# Altium schematic symbol library ST Logic Buffer Line Driver.SchLib: 127 symbols (part 1 of 3)
Pins are listed as number, name and electrical type; pins without a type are passive.

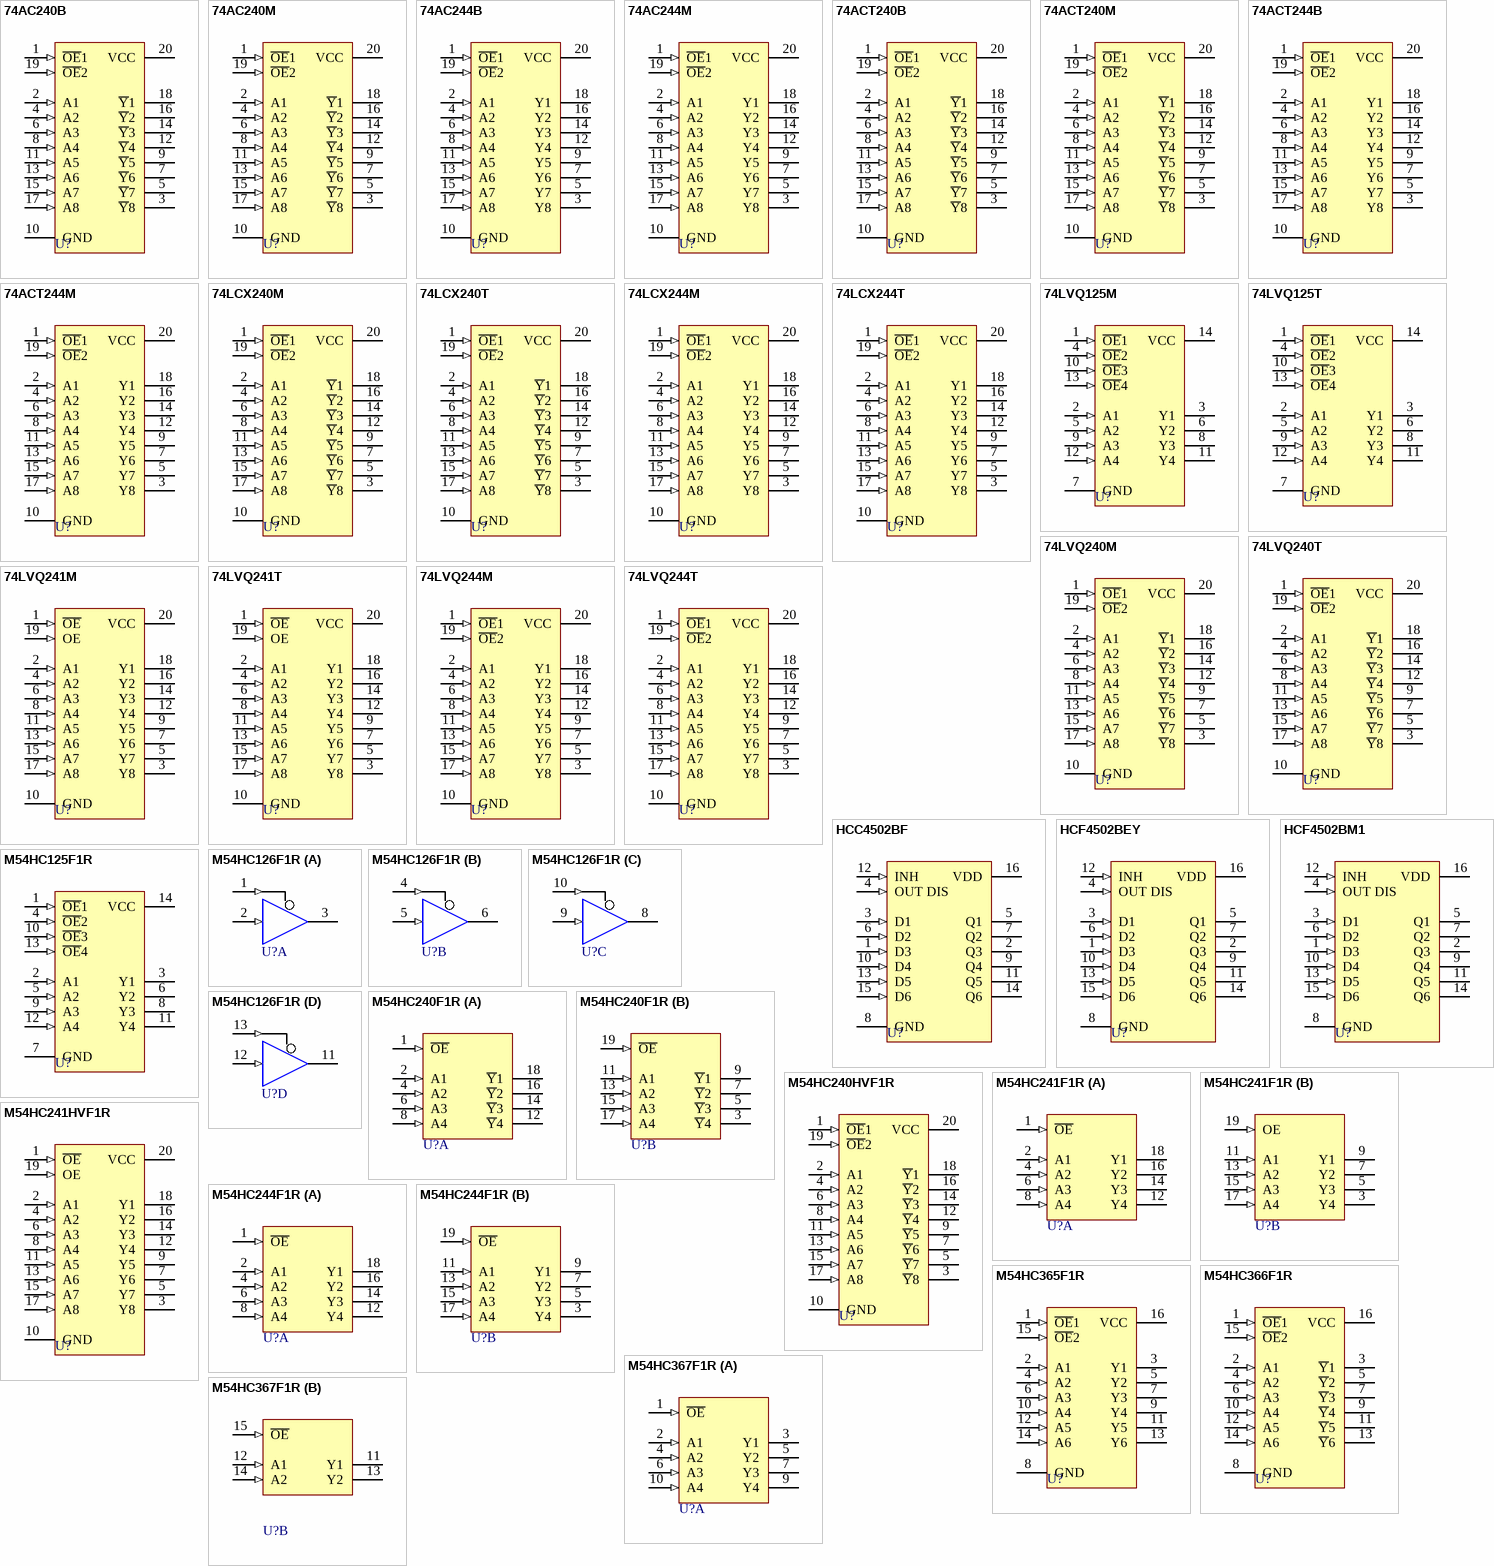
[diagram p0: symbols 74AC240B to M54HC367F1R]

## 74AC240B
designator U?
Octal Bus Buffer with 3 State Outputs (Inverted); Published: 8-Jun-2000; LatestRevisionDate: 06-Jun-2005; LatestRevisionNote: Stylized 3D Model Added.; DatasheetVersion: Apr-1997; PackageVersion: Jun-1998; PackageReference: DIP20; Publisher: Altium Limited; PackageDescription: DIP; 20 Leads; Row Spacing 7.62 mm; Pitch 2.54 mm; Code_JEDEC: MS-015-AE; ComponentLink1Description: Manufacturer Link; ComponentLink1URL: http://www.st.com/
footprint DIP20 (DIP; 20 Leads; Row Spacing 7.62 mm; Pitch 2.54 mm)
3D model DIP20 (DIP; 20 Leads; Row Spacing 7.62 mm; Pitch 2.54 mm)
signal-integrity model 74AC240B
pins: 1 ~{OE}1 (in), 2 A1 (in), 3 ~{Y}8 (hiz), 4 A2 (in), 5 ~{Y}7 (hiz), 6 A3 (in), 7 ~{Y}6 (hiz), 8 A4 (in), 9 ~{Y}5 (hiz), 10 GND (power), 11 A5 (in), 12 ~{Y}4 (hiz), 13 A6 (in), 14 ~{Y}3 (hiz), 15 A7 (in), 16 ~{Y}2 (hiz), 17 A8 (in), 18 ~{Y}1 (hiz), 19 ~{OE}2 (in), 20 VCC (power)

## 74AC240M
designator U?
Octal Bus Buffer with 3 State Outputs (Inverted); Published: 8-Jun-2000; LatestRevisionDate: 13-Apr-2006; LatestRevisionNote: IPC-7351 Footprint Added.; DatasheetVersion: Apr-1997; PackageVersion: Jul-2001; PackageReference: SO20; Publisher: Altium Limited; PackageDescription: 20-Pin Plastic Small Outline Integrated Circuit 1.27 mm Pitch; Code_JEDEC: MS-013-AC; Code_IPC: SOIC127P1030-20; ComponentLink1Description: Manufacturer Link; ComponentLink1URL: http://www.st.com/
footprint SO20_N (SOIC, 20-Leads, Body 12.8x7.5mm, Pitch 1.27mm, IPC Medium Density)
footprint SO20_L (SOIC, 20-Leads, Body 12.8x7.5mm, Pitch 1.27mm, IPC High Density)
footprint SO20_M (SOIC, 20-Leads, Body 12.8x7.5mm, Pitch 1.27mm, IPC Low Density)
3D model SO20 (20-Pin Plastic Small Outline Integrated Circuit 1.27 mm Pitch)
signal-integrity model 74AC240M
pins: 1 ~{OE}1 (in), 2 A1 (in), 3 ~{Y}8 (hiz), 4 A2 (in), 5 ~{Y}7 (hiz), 6 A3 (in), 7 ~{Y}6 (hiz), 8 A4 (in), 9 ~{Y}5 (hiz), 10 GND (power), 11 A5 (in), 12 ~{Y}4 (hiz), 13 A6 (in), 14 ~{Y}3 (hiz), 15 A7 (in), 16 ~{Y}2 (hiz), 17 A8 (in), 18 ~{Y}1 (hiz), 19 ~{OE}2 (in), 20 VCC (power)

## 74AC244B
designator U?
Octal Bus Buffer with 3 State Outputs (Non Inverted); Published: 8-Jun-2000; LatestRevisionDate: 06-Jun-2005; LatestRevisionNote: Stylized 3D Model Added.; DatasheetVersion: Apr-1997; PackageVersion: Jun-1998; PackageReference: DIP20; Publisher: Altium Limited; PackageDescription: DIP; 20 Leads; Row Spacing 7.62 mm; Pitch 2.54 mm; Code_JEDEC: MS-015-AE; ComponentLink1Description: Manufacturer Link; ComponentLink1URL: http://www.st.com/; ComponentLink2Description: Datasheet; ComponentLink2URL: http://www.st.com/stonline/products/literature/ds/4698/74ac244.pdf
footprint DIP20 (DIP; 20 Leads; Row Spacing 7.62 mm; Pitch 2.54 mm)
3D model DIP20 (DIP; 20 Leads; Row Spacing 7.62 mm; Pitch 2.54 mm)
signal-integrity model 74AC244B
pins: 1 ~{OE}1 (in), 2 A1 (in), 3 Y8 (hiz), 4 A2 (in), 5 Y7 (hiz), 6 A3 (in), 7 Y6 (hiz), 8 A4 (in), 9 Y5 (hiz), 10 GND (power), 11 A5 (in), 12 Y4 (hiz), 13 A6 (in), 14 Y3 (hiz), 15 A7 (in), 16 Y2 (hiz), 17 A8 (in), 18 Y1 (hiz), 19 ~{OE}2 (in), 20 VCC (power)

## 74AC244M
designator U?
Octal Bus Buffer with 3 State Outputs (Non Inverted); Published: 8-Jun-2000; LatestRevisionDate: 13-Apr-2006; LatestRevisionNote: IPC-7351 Footprint Added.; DatasheetVersion: Apr-1997; PackageVersion: Jul-2001; PackageReference: SO20; Publisher: Altium Limited; PackageDescription: 20-Pin Plastic Small Outline Integrated Circuit 1.27 mm Pitch; Code_JEDEC: MS-013-AC; Code_IPC: SOIC127P1030-20; ComponentLink1Description: Manufacturer Link; ComponentLink1URL: http://www.st.com/; ComponentLink2Description: Datasheet; ComponentLink2URL: http://www.st.com/stonline/products/literature/ds/4698/74ac244.pdf
footprint SO20_N (SOIC, 20-Leads, Body 12.8x7.5mm, Pitch 1.27mm, IPC Medium Density)
footprint SO20_L (SOIC, 20-Leads, Body 12.8x7.5mm, Pitch 1.27mm, IPC High Density)
footprint SO20_M (SOIC, 20-Leads, Body 12.8x7.5mm, Pitch 1.27mm, IPC Low Density)
3D model SO20 (20-Pin Plastic Small Outline Integrated Circuit 1.27 mm Pitch)
signal-integrity model 74AC244M
pins: 1 ~{OE}1 (in), 2 A1 (in), 3 Y8 (hiz), 4 A2 (in), 5 Y7 (hiz), 6 A3 (in), 7 Y6 (hiz), 8 A4 (in), 9 Y5 (hiz), 10 GND (power), 11 A5 (in), 12 Y4 (hiz), 13 A6 (in), 14 Y3 (hiz), 15 A7 (in), 16 Y2 (hiz), 17 A8 (in), 18 Y1 (hiz), 19 ~{OE}2 (in), 20 VCC (power)

## 74ACT240B
designator U?
Octal Bus Buffer with 3 State Outputs (Inverted); Published: 8-Jun-2000; LatestRevisionDate: 06-Jun-2005; LatestRevisionNote: Stylized 3D Model Added.; DatasheetVersion: Apr-1997; PackageVersion: Jun-1998; PackageReference: DIP20; Publisher: Altium Limited; PackageDescription: DIP; 20 Leads; Row Spacing 7.62 mm; Pitch 2.54 mm; Code_JEDEC: MS-015-AE; ComponentLink1Description: Manufacturer Link; ComponentLink1URL: http://www.st.com/; ComponentLink2Description: Datasheet; ComponentLink2URL: http://www.st.com/stonline/products/literature/ds/4826/74act240.pdf
footprint DIP20 (DIP; 20 Leads; Row Spacing 7.62 mm; Pitch 2.54 mm)
3D model DIP20 (DIP; 20 Leads; Row Spacing 7.62 mm; Pitch 2.54 mm)
signal-integrity model 74ACT240B
pins: 1 ~{OE}1 (in), 2 A1 (in), 3 ~{Y}8 (hiz), 4 A2 (in), 5 ~{Y}7 (hiz), 6 A3 (in), 7 ~{Y}6 (hiz), 8 A4 (in), 9 ~{Y}5 (hiz), 10 GND (power), 11 A5 (in), 12 ~{Y}4 (hiz), 13 A6 (in), 14 ~{Y}3 (hiz), 15 A7 (in), 16 ~{Y}2 (hiz), 17 A8 (in), 18 ~{Y}1 (hiz), 19 ~{OE}2 (in), 20 VCC (power)

## 74ACT240M
designator U?
Octal Bus Buffer with 3 State Outputs (Inverted); Published: 8-Jun-2000; LatestRevisionDate: 13-Apr-2006; LatestRevisionNote: IPC-7351 Footprint Added.; DatasheetVersion: Apr-1997; PackageVersion: Jul-2001; PackageReference: SO20; Publisher: Altium Limited; PackageDescription: 20-Pin Plastic Small Outline Integrated Circuit 1.27 mm Pitch; Code_JEDEC: MS-013-AC; Code_IPC: SOIC127P1030-20; ComponentLink1Description: Manufacturer Link; ComponentLink1URL: http://www.st.com/; ComponentLink2Description: Datasheet; ComponentLink2URL: http://www.st.com/stonline/products/literature/ds/4826/74act240.pdf
footprint SO20_N (SOIC, 20-Leads, Body 12.8x7.5mm, Pitch 1.27mm, IPC Medium Density)
footprint SO20_L (SOIC, 20-Leads, Body 12.8x7.5mm, Pitch 1.27mm, IPC High Density)
footprint SO20_M (SOIC, 20-Leads, Body 12.8x7.5mm, Pitch 1.27mm, IPC Low Density)
3D model SO20 (20-Pin Plastic Small Outline Integrated Circuit 1.27 mm Pitch)
signal-integrity model 74ACT240M
pins: 1 ~{OE}1 (in), 2 A1 (in), 3 ~{Y}8 (hiz), 4 A2 (in), 5 ~{Y}7 (hiz), 6 A3 (in), 7 ~{Y}6 (hiz), 8 A4 (in), 9 ~{Y}5 (hiz), 10 GND (power), 11 A5 (in), 12 ~{Y}4 (hiz), 13 A6 (in), 14 ~{Y}3 (hiz), 15 A7 (in), 16 ~{Y}2 (hiz), 17 A8 (in), 18 ~{Y}1 (hiz), 19 ~{OE}2 (in), 20 VCC (power)

## 74ACT244B
designator U?
Octal Bus Buffer with 3 State Outputs (Non Inverted); Published: 8-Jun-2000; LatestRevisionDate: 06-Jun-2005; LatestRevisionNote: Stylized 3D Model Added.; DatasheetVersion: Feb-1999; PackageVersion: Jun-1998; PackageReference: DIP20; Publisher: Altium Limited; PackageDescription: DIP; 20 Leads; Row Spacing 7.62 mm; Pitch 2.54 mm; Code_JEDEC: MS-015-AE; ComponentLink1Description: Manufacturer Link; ComponentLink1URL: http://www.st.com/; ComponentLink2Description: Datasheet; ComponentLink2URL: http://www.st.com/stonline/products/literature/ds/4825/74act244.pdf
footprint DIP20 (DIP; 20 Leads; Row Spacing 7.62 mm; Pitch 2.54 mm)
3D model DIP20 (DIP; 20 Leads; Row Spacing 7.62 mm; Pitch 2.54 mm)
signal-integrity model 74ACT244B
pins: 1 ~{OE}1 (in), 2 A1 (in), 3 Y8 (hiz), 4 A2 (in), 5 Y7 (hiz), 6 A3 (in), 7 Y6 (hiz), 8 A4 (in), 9 Y5 (hiz), 10 GND (power), 11 A5 (in), 12 Y4 (hiz), 13 A6 (in), 14 Y3 (hiz), 15 A7 (in), 16 Y2 (hiz), 17 A8 (in), 18 Y1 (hiz), 19 ~{OE}2 (in), 20 VCC (power)

## 74ACT244M
designator U?
Octal Bus Buffer with 3 State Outputs (Non Inverted); Published: 8-Jun-2000; LatestRevisionDate: 13-Apr-2006; LatestRevisionNote: IPC-7351 Footprint Added.; DatasheetVersion: Feb-1999; PackageVersion: Jul-2001; PackageReference: SO20; Publisher: Altium Limited; PackageDescription: 20-Pin Plastic Small Outline Integrated Circuit 1.27 mm Pitch; Code_JEDEC: MS-013-AC; Code_IPC: SOIC127P1030-20; ComponentLink1Description: Manufacturer Link; ComponentLink1URL: http://www.st.com/; ComponentLink2Description: Datasheet; ComponentLink2URL: http://www.st.com/stonline/products/literature/ds/4825/74act244.pdf
footprint SO20_N (SOIC, 20-Leads, Body 12.8x7.5mm, Pitch 1.27mm, IPC Medium Density)
footprint SO20_L (SOIC, 20-Leads, Body 12.8x7.5mm, Pitch 1.27mm, IPC High Density)
footprint SO20_M (SOIC, 20-Leads, Body 12.8x7.5mm, Pitch 1.27mm, IPC Low Density)
3D model SO20 (20-Pin Plastic Small Outline Integrated Circuit 1.27 mm Pitch)
signal-integrity model 74ACT244M
pins: 1 ~{OE}1 (in), 2 A1 (in), 3 Y8 (hiz), 4 A2 (in), 5 Y7 (hiz), 6 A3 (in), 7 Y6 (hiz), 8 A4 (in), 9 Y5 (hiz), 10 GND (power), 11 A5 (in), 12 Y4 (hiz), 13 A6 (in), 14 Y3 (hiz), 15 A7 (in), 16 Y2 (hiz), 17 A8 (in), 18 Y1 (hiz), 19 ~{OE}2 (in), 20 VCC (power)

## 74LCX240M
designator U?
Low Voltage CMOS Octal Bus Buffer (3 State Inv.) with 5V Tolerant Inputs and Outputs; Published: 8-Jun-2000; LatestRevisionDate: 13-Apr-2006; LatestRevisionNote: IPC-7351 Footprint Added.; DatasheetVersion: Feb-1999; PackageVersion: Jul-2001; PackageReference: SO20; Publisher: Altium Limited; PackageDescription: 20-Pin Plastic Small Outline Integrated Circuit 1.27 mm Pitch; Code_JEDEC: MS-013-AC; Code_IPC: SOIC127P1030-20; ComponentLink1Description: Manufacturer Link; ComponentLink1URL: http://www.st.com/; ComponentLink2Description: Datasheet; ComponentLink2URL: http://www.st.com/stonline/products/literature/ds/4964/74lcx240.pdf
footprint SO20_N (SOIC, 20-Leads, Body 12.8x7.5mm, Pitch 1.27mm, IPC Medium Density)
footprint SO20_L (SOIC, 20-Leads, Body 12.8x7.5mm, Pitch 1.27mm, IPC High Density)
footprint SO20_M (SOIC, 20-Leads, Body 12.8x7.5mm, Pitch 1.27mm, IPC Low Density)
3D model SO20 (20-Pin Plastic Small Outline Integrated Circuit 1.27 mm Pitch)
pins: 1 ~{OE}1 (in), 2 A1 (in), 3 ~{Y}8 (hiz), 4 A2 (in), 5 ~{Y}7 (hiz), 6 A3 (in), 7 ~{Y}6 (hiz), 8 A4 (in), 9 ~{Y}5 (hiz), 10 GND (power), 11 A5 (in), 12 ~{Y}4 (hiz), 13 A6 (in), 14 ~{Y}3 (hiz), 15 A7 (in), 16 ~{Y}2 (hiz), 17 A8 (in), 18 ~{Y}1 (hiz), 19 ~{OE}2 (in), 20 VCC (power)

## 74LCX240T
designator U?
Low Voltage CMOS Octal Bus Buffer (3 State Inv.) with 5V Tolerant Inputs and Outputs; Published: 8-Jun-2000; LatestRevisionDate: 06-Jun-2005; LatestRevisionNote: Stylized 3D Model Added.; DatasheetVersion: Feb-1999; PackageReference: TSSOP20; Publisher: Altium Limited; PackageDescription: Shrink Small Outline; 20 Leads; Body Width 4.4 mm; Pitch 0.65 mm; ComponentLink1Description: Manufacturer Link; ComponentLink1URL: http://www.st.com/; ComponentLink2Description: Datasheet; ComponentLink2URL: http://www.st.com/stonline/products/literature/ds/4964/74lcx240.pdf
footprint TSSOP20 (Shrink Small Outline; 20 Leads; Body Width 4.4 mm; Pitch 0.65 mm)
3D model TSSOP20 (Shrink Small Outline; 20 Leads; Body Width 4.4 mm; Pitch 0.65 mm)
pins: 1 ~{OE}1 (in), 2 A1 (in), 3 ~{Y}8 (hiz), 4 A2 (in), 5 ~{Y}7 (hiz), 6 A3 (in), 7 ~{Y}6 (hiz), 8 A4 (in), 9 ~{Y}5 (hiz), 10 GND (power), 11 A5 (in), 12 ~{Y}4 (hiz), 13 A6 (in), 14 ~{Y}3 (hiz), 15 A7 (in), 16 ~{Y}2 (hiz), 17 A8 (in), 18 ~{Y}1 (hiz), 19 ~{OE}2 (in), 20 VCC (power)

## 74LCX244M
designator U?
Low Voltage CMOS Octal Bus Buffer (3-State) with 5V Tolerant Inputs and Outputs; Published: 8-Jun-2000; LatestRevisionDate: 13-Apr-2006; LatestRevisionNote: IPC-7351 Footprint Added.; DatasheetVersion: Feb-1999; PackageVersion: Jul-2001; PackageReference: SO20; Publisher: Altium Limited; PackageDescription: 20-Pin Plastic Small Outline Integrated Circuit 1.27 mm Pitch; Code_JEDEC: MS-013-AC; Code_IPC: SOIC127P1030-20; ComponentLink1Description: Manufacturer Link; ComponentLink1URL: http://www.st.com/; ComponentLink2Description: Datasheet; ComponentLink2URL: http://www.st.com/stonline/products/literature/ds/4683/74lcx244.pdf
footprint SO20_N (SOIC, 20-Leads, Body 12.8x7.5mm, Pitch 1.27mm, IPC Medium Density)
footprint SO20_L (SOIC, 20-Leads, Body 12.8x7.5mm, Pitch 1.27mm, IPC High Density)
footprint SO20_M (SOIC, 20-Leads, Body 12.8x7.5mm, Pitch 1.27mm, IPC Low Density)
3D model SO20 (20-Pin Plastic Small Outline Integrated Circuit 1.27 mm Pitch)
pins: 1 ~{OE}1 (in), 2 A1 (in), 3 Y8 (hiz), 4 A2 (in), 5 Y7 (hiz), 6 A3 (in), 7 Y6 (hiz), 8 A4 (in), 9 Y5 (hiz), 10 GND (power), 11 A5 (in), 12 Y4 (hiz), 13 A6 (in), 14 Y3 (hiz), 15 A7 (in), 16 Y2 (hiz), 17 A8 (in), 18 Y1 (hiz), 19 ~{OE}2 (in), 20 VCC (power)

## 74LCX244T
designator U?
Low Voltage CMOS Octal Bus Buffer (3-State) with 5V Tolerant Inputs and Outputs; Published: 8-Jun-2000; LatestRevisionDate: 06-Jun-2005; LatestRevisionNote: Stylized 3D Model Added.; DatasheetVersion: Feb-1999; PackageReference: TSSOP20; Publisher: Altium Limited; PackageDescription: Shrink Small Outline; 20 Leads; Body Width 4.4 mm; Pitch 0.65 mm; ComponentLink1Description: Manufacturer Link; ComponentLink1URL: http://www.st.com/; ComponentLink2Description: Datasheet; ComponentLink2URL: http://www.st.com/stonline/products/literature/ds/4683/74lcx244.pdf
footprint TSSOP20 (Shrink Small Outline; 20 Leads; Body Width 4.4 mm; Pitch 0.65 mm)
3D model TSSOP20 (Shrink Small Outline; 20 Leads; Body Width 4.4 mm; Pitch 0.65 mm)
pins: 1 ~{OE}1 (in), 2 A1 (in), 3 Y8 (hiz), 4 A2 (in), 5 Y7 (hiz), 6 A3 (in), 7 Y6 (hiz), 8 A4 (in), 9 Y5 (hiz), 10 GND (power), 11 A5 (in), 12 Y4 (hiz), 13 A6 (in), 14 Y3 (hiz), 15 A7 (in), 16 Y2 (hiz), 17 A8 (in), 18 Y1 (hiz), 19 ~{OE}2 (in), 20 VCC (power)

## 74LVQ125M
designator U?
Quad Bus Buffer (3-State); Published: 8-Jun-2000; LatestRevisionDate: 13-Apr-2006; LatestRevisionNote: IPC-7351 Footprint Added.; DatasheetVersion: Feb-1999; PackageVersion: Sep-1998; PackageReference: SO14; Publisher: Altium Limited; PackageDescription: 14-Pin Small Outline Integrated Circuit 1.27 mm Pitch; Code_IPC: SOIC127P600-14; ComponentLink1Description: Manufacturer Link; ComponentLink1URL: http://www.st.com/; ComponentLink2Description: Datasheet; ComponentLink2URL: http://www.st.com/stonline/products/literature/ds/4933/74lvq125.pdf
footprint SO14_N (SOIC, 14-Leads, Body 8.7x3.9mm, Pitch 1.27mm, IPC Medium Density)
footprint SO14_L (SOIC, 14-Leads, Body 8.7x3.9mm, Pitch 1.27mm, IPC High Density)
footprint SO14_M (SOIC, 14-Leads, Body 8.7x3.9mm, Pitch 1.27mm, IPC Low Density)
3D model SO14 (14-Pin Small Outline Integrated Circuit 1.27 mm Pitch)
pins: 1 ~{OE}1 (in), 2 A1 (in), 3 Y1 (hiz), 4 ~{OE}2 (in), 5 A2 (in), 6 Y2 (hiz), 7 GND (power), 8 Y3 (hiz), 9 A3 (in), 10 ~{OE}3 (in), 11 Y4 (hiz), 12 A4 (in), 13 ~{OE}4 (in), 14 VCC (power)

## 74LVQ125T
designator U?
Quad Bus Buffer (3-State); Published: 8-Jun-2000; LatestRevisionDate: 06-Jun-2005; LatestRevisionNote: Stylized 3D Model Added.; DatasheetVersion: Feb-1999; PackageVersion: Jul-1998; PackageReference: TSSOP14; Publisher: Altium Limited; PackageDescription: Shrink Small Outline; 14 Leads; Body Width 4.4 mm; Pitch 0.65 mm; ComponentLink1Description: Manufacturer Link; ComponentLink1URL: http://www.st.com/; ComponentLink2Description: Datasheet; ComponentLink2URL: http://www.st.com/stonline/products/literature/ds/4933/74lvq125.pdf
footprint TSSOP14 (Shrink Small Outline; 14 Leads; Body Width 4.4 mm; Pitch 0.65 mm)
3D model TSSOP14 (Shrink Small Outline; 14 Leads; Body Width 4.4 mm; Pitch 0.65 mm)
pins: 1 ~{OE}1 (in), 2 A1 (in), 3 Y1 (hiz), 4 ~{OE}2 (in), 5 A2 (in), 6 Y2 (hiz), 7 GND (power), 8 Y3 (hiz), 9 A3 (in), 10 ~{OE}3 (in), 11 Y4 (hiz), 12 A4 (in), 13 ~{OE}4 (in), 14 VCC (power)

## 74LVQ240M
designator U?
Low Voltage Octal Bus Buffer with 3 State Outputs (Inverted); Published: 8-Jun-2000; LatestRevisionDate: 13-Apr-2006; LatestRevisionNote: IPC-7351 Footprint Added.; DatasheetVersion: Feb-1999; PackageVersion: Jul-2001; PackageReference: SO20; Publisher: Altium Limited; PackageDescription: 20-Pin Plastic Small Outline Integrated Circuit 1.27 mm Pitch; Code_JEDEC: MS-013-AC; Code_IPC: SOIC127P1030-20; ComponentLink1Description: Manufacturer Link; ComponentLink1URL: http://www.st.com/; ComponentLink2Description: Datasheet; ComponentLink2URL: http://www.st.com/stonline/products/literature/ds/4685/74lvq240.pdf
footprint SO20_N (SOIC, 20-Leads, Body 12.8x7.5mm, Pitch 1.27mm, IPC Medium Density)
footprint SO20_L (SOIC, 20-Leads, Body 12.8x7.5mm, Pitch 1.27mm, IPC High Density)
footprint SO20_M (SOIC, 20-Leads, Body 12.8x7.5mm, Pitch 1.27mm, IPC Low Density)
3D model SO20 (20-Pin Plastic Small Outline Integrated Circuit 1.27 mm Pitch)
pins: 1 ~{OE}1 (in), 2 A1 (in), 3 ~{Y}8 (hiz), 4 A2 (in), 5 ~{Y}7 (hiz), 6 A3 (in), 7 ~{Y}6 (hiz), 8 A4 (in), 9 ~{Y}5 (hiz), 10 GND (power), 11 A5 (in), 12 ~{Y}4 (hiz), 13 A6 (in), 14 ~{Y}3 (hiz), 15 A7 (in), 16 ~{Y}2 (hiz), 17 A8 (in), 18 ~{Y}1 (hiz), 19 ~{OE}2 (in), 20 VCC (power)

## 74LVQ240T
designator U?
Low Voltage Octal Bus Buffer with 3 State Outputs (Inverted); Published: 8-Jun-2000; LatestRevisionDate: 06-Jun-2005; LatestRevisionNote: Stylized 3D Model Added.; DatasheetVersion: Feb-1999; PackageReference: TSSOP20; Publisher: Altium Limited; PackageDescription: Shrink Small Outline; 20 Leads; Body Width 4.4 mm; Pitch 0.65 mm; ComponentLink1Description: Manufacturer Link; ComponentLink1URL: http://www.st.com/; ComponentLink2Description: Datasheet; ComponentLink2URL: http://www.st.com/stonline/products/literature/ds/4685/74lvq240.pdf
footprint TSSOP20 (Shrink Small Outline; 20 Leads; Body Width 4.4 mm; Pitch 0.65 mm)
3D model TSSOP20 (Shrink Small Outline; 20 Leads; Body Width 4.4 mm; Pitch 0.65 mm)
pins: 1 ~{OE}1 (in), 2 A1 (in), 3 ~{Y}8 (hiz), 4 A2 (in), 5 ~{Y}7 (hiz), 6 A3 (in), 7 ~{Y}6 (hiz), 8 A4 (in), 9 ~{Y}5 (hiz), 10 GND (power), 11 A5 (in), 12 ~{Y}4 (hiz), 13 A6 (in), 14 ~{Y}3 (hiz), 15 A7 (in), 16 ~{Y}2 (hiz), 17 A8 (in), 18 ~{Y}1 (hiz), 19 ~{OE}2 (in), 20 VCC (power)

## 74LVQ241M
designator U?
Low Voltage Octal Bus Buffer with 3 State Outputs (Non Inverted); Published: 8-Jun-2000; LatestRevisionDate: 13-Apr-2006; LatestRevisionNote: IPC-7351 Footprint Added.; DatasheetVersion: Feb-1999; PackageVersion: Jul-2001; PackageReference: SO20; Publisher: Altium Limited; PackageDescription: 20-Pin Plastic Small Outline Integrated Circuit 1.27 mm Pitch; Code_JEDEC: MS-013-AC; Code_IPC: SOIC127P1030-20; ComponentLink1Description: Manufacturer Link; ComponentLink1URL: http://www.st.com/; ComponentLink2Description: Datasheet; ComponentLink2URL: http://www.st.com/stonline/products/literature/ds/4686/74lvq241.pdf
footprint SO20_N (SOIC, 20-Leads, Body 12.8x7.5mm, Pitch 1.27mm, IPC Medium Density)
footprint SO20_L (SOIC, 20-Leads, Body 12.8x7.5mm, Pitch 1.27mm, IPC High Density)
footprint SO20_M (SOIC, 20-Leads, Body 12.8x7.5mm, Pitch 1.27mm, IPC Low Density)
3D model SO20 (20-Pin Plastic Small Outline Integrated Circuit 1.27 mm Pitch)
pins: 1 ~{OE} (in), 2 A1 (in), 3 Y8 (hiz), 4 A2 (in), 5 Y7 (hiz), 6 A3 (in), 7 Y6 (hiz), 8 A4 (in), 9 Y5 (hiz), 10 GND (power), 11 A5 (in), 12 Y4 (hiz), 13 A6 (in), 14 Y3 (hiz), 15 A7 (in), 16 Y2 (hiz), 17 A8 (in), 18 Y1 (hiz), 19 OE (in), 20 VCC (power)

## 74LVQ241T
designator U?
Low Voltage Octal Bus Buffer with 3 State Outputs (Non Inverted); Published: 8-Jun-2000; LatestRevisionDate: 06-Jun-2005; LatestRevisionNote: Stylized 3D Model Added.; DatasheetVersion: Feb-1999; PackageReference: TSSOP20; Publisher: Altium Limited; PackageDescription: Shrink Small Outline; 20 Leads; Body Width 4.4 mm; Pitch 0.65 mm; ComponentLink1Description: Manufacturer Link; ComponentLink1URL: http://www.st.com/; ComponentLink2Description: Datasheet; ComponentLink2URL: http://www.st.com/stonline/products/literature/ds/4686/74lvq241.pdf
footprint TSSOP20 (Shrink Small Outline; 20 Leads; Body Width 4.4 mm; Pitch 0.65 mm)
3D model TSSOP20 (Shrink Small Outline; 20 Leads; Body Width 4.4 mm; Pitch 0.65 mm)
pins: 1 ~{OE} (in), 2 A1 (in), 3 Y8 (hiz), 4 A2 (in), 5 Y7 (hiz), 6 A3 (in), 7 Y6 (hiz), 8 A4 (in), 9 Y5 (hiz), 10 GND (power), 11 A5 (in), 12 Y4 (hiz), 13 A6 (in), 14 Y3 (hiz), 15 A7 (in), 16 Y2 (hiz), 17 A8 (in), 18 Y1 (hiz), 19 OE (in), 20 VCC (power)

## 74LVQ244M
designator U?
Low Voltage Octal Bus Buffer with 3 State Outputs (Non Inverted); Published: 8-Jun-2000; LatestRevisionDate: 13-Apr-2006; LatestRevisionNote: IPC-7351 Footprint Added.; DatasheetVersion: Feb-1999; PackageVersion: Jul-2001; PackageReference: SO20; Publisher: Altium Limited; PackageDescription: 20-Pin Plastic Small Outline Integrated Circuit 1.27 mm Pitch; Code_JEDEC: MS-013-AC; Code_IPC: SOIC127P1030-20; ComponentLink1Description: Manufacturer Link; ComponentLink1URL: http://www.st.com/; ComponentLink2Description: Datasheet; ComponentLink2URL: http://www.st.com/stonline/products/literature/ds/4687/74lvq244.pdf
footprint SO20_N (SOIC, 20-Leads, Body 12.8x7.5mm, Pitch 1.27mm, IPC Medium Density)
footprint SO20_L (SOIC, 20-Leads, Body 12.8x7.5mm, Pitch 1.27mm, IPC High Density)
footprint SO20_M (SOIC, 20-Leads, Body 12.8x7.5mm, Pitch 1.27mm, IPC Low Density)
3D model SO20 (20-Pin Plastic Small Outline Integrated Circuit 1.27 mm Pitch)
pins: 1 ~{OE}1 (in), 2 A1 (in), 3 Y8 (hiz), 4 A2 (in), 5 Y7 (hiz), 6 A3 (in), 7 Y6 (hiz), 8 A4 (in), 9 Y5 (hiz), 10 GND (power), 11 A5 (in), 12 Y4 (hiz), 13 A6 (in), 14 Y3 (hiz), 15 A7 (in), 16 Y2 (hiz), 17 A8 (in), 18 Y1 (hiz), 19 ~{OE}2 (in), 20 VCC (power)

## 74LVQ244T
designator U?
Low Voltage Octal Bus Buffer with 3 State Outputs (Non Inverted); Published: 8-Jun-2000; LatestRevisionDate: 06-Jun-2005; LatestRevisionNote: Stylized 3D Model Added.; DatasheetVersion: Feb-1999; PackageReference: TSSOP20; Publisher: Altium Limited; PackageDescription: Shrink Small Outline; 20 Leads; Body Width 4.4 mm; Pitch 0.65 mm; ComponentLink1Description: Manufacturer Link; ComponentLink1URL: http://www.st.com/; ComponentLink2Description: Datasheet; ComponentLink2URL: http://www.st.com/stonline/products/literature/ds/4687/74lvq244.pdf
footprint TSSOP20 (Shrink Small Outline; 20 Leads; Body Width 4.4 mm; Pitch 0.65 mm)
3D model TSSOP20 (Shrink Small Outline; 20 Leads; Body Width 4.4 mm; Pitch 0.65 mm)
pins: 1 ~{OE}1 (in), 2 A1 (in), 3 Y8 (hiz), 4 A2 (in), 5 Y7 (hiz), 6 A3 (in), 7 Y6 (hiz), 8 A4 (in), 9 Y5 (hiz), 10 GND (power), 11 A5 (in), 12 Y4 (hiz), 13 A6 (in), 14 Y3 (hiz), 15 A7 (in), 16 Y2 (hiz), 17 A8 (in), 18 Y1 (hiz), 19 ~{OE}2 (in), 20 VCC (power)

## HCC4502BF
designator U?
Strobed Hex Inverter/Buffer; Published: 8-Jun-2000; LatestRevisionDate: 06-Jun-2005; LatestRevisionNote: Stylized 3D Model Added.; DatasheetVersion: Jun-1989; PackageVersion: Apr-1996; PackageReference: DIP16; Publisher: Altium Limited; PackageDescription: DIP; 16 Leads; Row Spacing 7.62 mm; Pitch 2.54 mm; ComponentLink1Description: Manufacturer Link; ComponentLink1URL: http://www.st.com/
footprint DIP16 (DIP; 16 Leads; Row Spacing 7.62 mm; Pitch 2.54 mm)
3D model DIP16 (DIP; 16 Leads; Row Spacing 7.62 mm; Pitch 2.54 mm)
simulation model HCC4502 (SIMCODE)
pins: 1 D3 (in), 2 Q3 (hiz), 3 D1 (in), 4 OUT DIS (in), 5 Q1 (hiz), 6 D2 (in), 7 Q2 (hiz), 8 GND (power), 9 Q4 (hiz), 10 D4 (in), 11 Q5 (hiz), 12 INH (in), 13 D5 (in), 14 Q6 (hiz), 15 D6 (in), 16 VDD (power)

## HCF4502BEY
designator U?
Strobed Hex Inverter/Buffer; Published: 8-Jun-2000; LatestRevisionDate: 06-Jun-2005; LatestRevisionNote: Stylized 3D Model Added.; DatasheetVersion: Jun-1989; PackageVersion: Apr-1996; PackageReference: DIP16; Publisher: Altium Limited; PackageDescription: DIP; 16 Leads; Row Spacing 7.62 mm; Pitch 2.54 mm; ComponentLink1Description: Manufacturer Link; ComponentLink1URL: http://www.st.com/
footprint DIP16 (DIP; 16 Leads; Row Spacing 7.62 mm; Pitch 2.54 mm)
3D model DIP16 (DIP; 16 Leads; Row Spacing 7.62 mm; Pitch 2.54 mm)
simulation model HCF4502 (SIMCODE)
pins: 1 D3 (in), 2 Q3 (hiz), 3 D1 (in), 4 OUT DIS (in), 5 Q1 (hiz), 6 D2 (in), 7 Q2 (hiz), 8 GND (power), 9 Q4 (hiz), 10 D4 (in), 11 Q5 (hiz), 12 INH (in), 13 D5 (in), 14 Q6 (hiz), 15 D6 (in), 16 VDD (power)

## HCF4502BM1
designator U?
Strobed Hex Inverter/Buffer; Published: 8-Jun-2000; LatestRevisionDate: 13-Apr-2006; LatestRevisionNote: IPC-7351 Footprint Added.; DatasheetVersion: Jun-1989; PackageVersion: May-1998; PackageReference: SO16; Publisher: Altium Limited; PackageDescription: 16-Pin Small Outline Integrated Circuit 1.27 mm Pitch; Code_IPC: SOIC127P600-16; ComponentLink1Description: Manufacturer Link; ComponentLink1URL: http://www.st.com/
footprint SO16_N (SOIC, 16-Leads, Body 9.9x3.9mm, Pitch 1.27mm, IPC Medium Density)
footprint SO16_L (SOIC, 16-Leads, Body 9.9x3.9mm, Pitch 1.27mm, IPC High Density)
footprint SO16_M (SOIC, 16-Leads, Body 9.9x3.9mm, Pitch 1.27mm, IPC Low Density)
3D model SO16 (16-Pin Small Outline Integrated Circuit 1.27 mm Pitch)
simulation model HCF4502 (SIMCODE)
pins: 1 D3 (in), 2 Q3 (hiz), 3 D1 (in), 4 OUT DIS (in), 5 Q1 (hiz), 6 D2 (in), 7 Q2 (hiz), 8 GND (power), 9 Q4 (hiz), 10 D4 (in), 11 Q5 (hiz), 12 INH (in), 13 D5 (in), 14 Q6 (hiz), 15 D6 (in), 16 VDD (power)

## M54HC125F1R
designator U?
Quad Bus Buffer (3-State); Published: 8-Jun-2000; LatestRevisionDate: 06-Jun-2005; LatestRevisionNote: Stylized 3D Model Added.; DatasheetVersion: Sep-1993; PackageReference: CDIP14; Publisher: Altium Limited; PackageDescription: DIP; 14 Leads; Row Spacing 7.62 mm; Pitch 2.54 mm; ComponentLink1Description: Manufacturer Link; ComponentLink1URL: http://www.st.com/; ComponentLink2Description: Datasheet; ComponentLink2URL: http://www.st.com/stonline/products/literature/ds/1894/m74hc125.pdf
footprint CDIP14 (DIP; 14 Leads; Row Spacing 7.62 mm; Pitch 2.54 mm)
3D model DIP14 (DIP; 14 Leads; Row Spacing 7.62 mm; Pitch 2.54 mm)
signal-integrity model M54HC125F1R
pins: 1 ~{OE}1 (in), 2 A1 (in), 3 Y1 (hiz), 4 ~{OE}2 (in), 5 A2 (in), 6 Y2 (hiz), 7 GND (power), 8 Y3 (hiz), 9 A3 (in), 10 ~{OE}3 (in), 11 Y4 (hiz), 12 A4 (in), 13 ~{OE}4 (in), 14 VCC (power)

## M54HC126F1R
designator U?
Quad Bus Buffer (3-State); Published: 8-Jun-2000; LatestRevisionDate: 06-Jun-2005; LatestRevisionNote: Stylized 3D Model Added.; DatasheetVersion: Sep-1993; PackageReference: CDIP14; Publisher: Altium Limited; PackageDescription: DIP; 14 Leads; Row Spacing 7.62 mm; Pitch 2.54 mm; ComponentLink1Description: Manufacturer Link; ComponentLink1URL: http://www.st.com/; ComponentLink2Description: Datasheet; ComponentLink2URL: http://www.st.com/stonline/products/literature/ds/8021/m74hc126.pdf
footprint CDIP14 (DIP; 14 Leads; Row Spacing 7.62 mm; Pitch 2.54 mm)
3D model DIP14 (DIP; 14 Leads; Row Spacing 7.62 mm; Pitch 2.54 mm)
signal-integrity model M54HC126F1R
pins on every part: 7 GND (power) hidden to GND, 14 VCC (power) hidden to VCC
part A pins: 1 OE (in), 2 A (in), 3 Y (hiz)
part B pins: 4 OE (in), 5 A (in), 6 Y (hiz)
part C pins: 8 Y (hiz), 9 A (in), 10 OE (in)
part D pins: 11 Y (hiz), 12 A (in), 13 OE (in)

## M54HC240F1R
designator U?
Octal Bus Buffer with 3 State Outputs (Inverted); Published: 8-Jun-2000; LatestRevisionDate: 06-Jun-2005; LatestRevisionNote: Stylized 3D Model Added.; DatasheetVersion: Oct-1993; PackageVersion: Sep-1994; PackageReference: CDIP20; Publisher: Altium Limited; PackageDescription: DIP; 20 Leads; Row Spacing 7.62 mm; Pitch 2.54 mm; ComponentLink1Description: Manufacturer Link; ComponentLink1URL: http://www.st.com/; ComponentLink2Description: Datasheet; ComponentLink2URL: http://www.st.com/stonline/products/literature/ds/10327/m54hc240.pdf
footprint CDIP20 (DIP; 20 Leads; Row Spacing 7.62 mm; Pitch 2.54 mm)
3D model CDIP20 (DIP; 20 Leads; Row Spacing 7.62 mm; Pitch 2.54 mm)
signal-integrity model M54HC240F1R
pins on every part: 10 GND (power) hidden to GND, 20 VCC (power) hidden to VCC
part A pins: 1 ~{OE} (in), 2 A1 (in), 4 A2 (in), 6 A3 (in), 8 A4 (in), 12 ~{Y}4 (hiz), 14 ~{Y}3 (hiz), 16 ~{Y}2 (hiz), 18 ~{Y}1 (hiz)
part B pins: 3 ~{Y}4 (hiz), 5 ~{Y}3 (hiz), 7 ~{Y}2 (hiz), 9 ~{Y}1 (hiz), 11 A1 (in), 13 A2 (in), 15 A3 (in), 17 A4 (in), 19 ~{OE} (in)

## M54HC240HVF1R
designator U?
Octal Bus Buffer with 3 State Outputs (Inverted); Published: 8-Jun-2000; LatestRevisionDate: 06-Jun-2005; LatestRevisionNote: Stylized 3D Model Added.; DatasheetVersion: Apr-1993; PackageVersion: Sep-1994; PackageReference: CDIP20; Publisher: Altium Limited; PackageDescription: DIP; 20 Leads; Row Spacing 7.62 mm; Pitch 2.54 mm; ComponentLink1Description: Manufacturer Link; ComponentLink1URL: http://www.st.com/
footprint CDIP20 (DIP; 20 Leads; Row Spacing 7.62 mm; Pitch 2.54 mm)
3D model CDIP20 (DIP; 20 Leads; Row Spacing 7.62 mm; Pitch 2.54 mm)
signal-integrity model M54HC240HVF1R
pins: 1 ~{OE}1 (in), 2 A1 (in), 3 ~{Y}8 (hiz), 4 A2 (in), 5 ~{Y}7 (hiz), 6 A3 (in), 7 ~{Y}6 (hiz), 8 A4 (in), 9 ~{Y}5 (hiz), 10 GND (power), 11 A5 (in), 12 ~{Y}4 (hiz), 13 A6 (in), 14 ~{Y}3 (hiz), 15 A7 (in), 16 ~{Y}2 (hiz), 17 A8 (in), 18 ~{Y}1 (hiz), 19 ~{OE}2 (in), 20 VCC (power)

## M54HC241F1R
designator U?
Octal Bus Buffer with 3 State Outputs (Non Inverted); Published: 8-Jun-2000; LatestRevisionDate: 06-Jun-2005; LatestRevisionNote: Stylized 3D Model Added.; DatasheetVersion: Oct-1993; PackageVersion: Sep-1994; PackageReference: CDIP20; Publisher: Altium Limited; PackageDescription: DIP; 20 Leads; Row Spacing 7.62 mm; Pitch 2.54 mm; ComponentLink1Description: Manufacturer Link; ComponentLink1URL: http://www.st.com/; ComponentLink2Description: Datasheet; ComponentLink2URL: http://www.st.com/stonline/products/literature/ds/10328/m54hc241.pdf
footprint CDIP20 (DIP; 20 Leads; Row Spacing 7.62 mm; Pitch 2.54 mm)
3D model CDIP20 (DIP; 20 Leads; Row Spacing 7.62 mm; Pitch 2.54 mm)
signal-integrity model M54HC241F1R
pins on every part: 10 GND (power) hidden to GND, 20 VCC (power) hidden to VCC
part A pins: 1 ~{OE} (in), 2 A1 (in), 4 A2 (in), 6 A3 (in), 8 A4 (in), 12 Y4 (hiz), 14 Y3 (hiz), 16 Y2 (hiz), 18 Y1 (hiz)
part B pins: 3 Y4 (hiz), 5 Y3 (hiz), 7 Y2 (hiz), 9 Y1 (hiz), 11 A1 (in), 13 A2 (in), 15 A3 (in), 17 A4 (in), 19 OE (in)

## M54HC241HVF1R
designator U?
Octal Bus Buffer with 3 State Outputs (Non Inverted); Published: 8-Jun-2000; LatestRevisionDate: 06-Jun-2005; LatestRevisionNote: Stylized 3D Model Added.; DatasheetVersion: Apr-1993; PackageVersion: Sep-1994; PackageReference: CDIP20; Publisher: Altium Limited; PackageDescription: DIP; 20 Leads; Row Spacing 7.62 mm; Pitch 2.54 mm; ComponentLink1Description: Manufacturer Link; ComponentLink1URL: http://www.st.com/
footprint CDIP20 (DIP; 20 Leads; Row Spacing 7.62 mm; Pitch 2.54 mm)
3D model CDIP20 (DIP; 20 Leads; Row Spacing 7.62 mm; Pitch 2.54 mm)
signal-integrity model M54HC241HVF1R
pins: 1 ~{OE} (in), 2 A1 (in), 3 Y8 (hiz), 4 A2 (in), 5 Y7 (hiz), 6 A3 (in), 7 Y6 (hiz), 8 A4 (in), 9 Y5 (hiz), 10 GND (power), 11 A5 (in), 12 Y4 (hiz), 13 A6 (in), 14 Y3 (hiz), 15 A7 (in), 16 Y2 (hiz), 17 A8 (in), 18 Y1 (hiz), 19 OE (in), 20 VCC (power)

## M54HC244F1R
designator U?
Octal Bus Buffer with 3 State Outputs (Non Inverted); Published: 8-Jun-2000; LatestRevisionDate: 06-Jun-2005; LatestRevisionNote: Stylized 3D Model Added.; DatasheetVersion: Oct-1993; PackageVersion: Sep-1994; PackageReference: CDIP20; Publisher: Altium Limited; PackageDescription: DIP; 20 Leads; Row Spacing 7.62 mm; Pitch 2.54 mm; ComponentLink1Description: Manufacturer Link; ComponentLink1URL: http://www.st.com/; ComponentLink2Description: Datasheet; ComponentLink2URL: http://www.st.com/stonline/products/literature/ds/10374/m54hc244.pdf
footprint CDIP20 (DIP; 20 Leads; Row Spacing 7.62 mm; Pitch 2.54 mm)
3D model CDIP20 (DIP; 20 Leads; Row Spacing 7.62 mm; Pitch 2.54 mm)
signal-integrity model M54HC244F1R
pins on every part: 10 GND (power) hidden to GND, 20 VCC (power) hidden to VCC
part A pins: 1 ~{OE} (in), 2 A1 (in), 4 A2 (in), 6 A3 (in), 8 A4 (in), 12 Y4 (hiz), 14 Y3 (hiz), 16 Y2 (hiz), 18 Y1 (hiz)
part B pins: 3 Y4 (hiz), 5 Y3 (hiz), 7 Y2 (hiz), 9 Y1 (hiz), 11 A1 (in), 13 A2 (in), 15 A3 (in), 17 A4 (in), 19 ~{OE} (in)

## M54HC365F1R
designator U?
Hex Bus Buffer (3-State Non Inv.); Published: 8-Jun-2000; LatestRevisionDate: 06-Jun-2005; LatestRevisionNote: Stylized 3D Model Added.; DatasheetVersion: Oct-1992; PackageVersion: Apr-1996; PackageReference: DIP16; Publisher: Altium Limited; PackageDescription: DIP; 16 Leads; Row Spacing 7.62 mm; Pitch 2.54 mm; ComponentLink1Description: Manufacturer Link; ComponentLink1URL: http://www.st.com/
footprint DIP16 (DIP; 16 Leads; Row Spacing 7.62 mm; Pitch 2.54 mm)
3D model DIP16 (DIP; 16 Leads; Row Spacing 7.62 mm; Pitch 2.54 mm)
signal-integrity model M54HC365F1R
pins: 1 ~{OE}1 (in), 2 A1 (in), 3 Y1 (hiz), 4 A2 (in), 5 Y2 (hiz), 6 A3 (in), 7 Y3 (hiz), 8 GND (power), 9 Y4 (hiz), 10 A4 (in), 11 Y5 (hiz), 12 A5 (in), 13 Y6 (hiz), 14 A6 (in), 15 ~{OE}2 (in), 16 VCC (power)

## M54HC366F1R
designator U?
Hex Bus Buffer (3-State Inv.); Published: 8-Jun-2000; LatestRevisionDate: 06-Jun-2005; LatestRevisionNote: Stylized 3D Model Added.; DatasheetVersion: Oct-1992; PackageVersion: Apr-1996; PackageReference: DIP16; Publisher: Altium Limited; PackageDescription: DIP; 16 Leads; Row Spacing 7.62 mm; Pitch 2.54 mm; ComponentLink1Description: Manufacturer Link; ComponentLink1URL: http://www.st.com/
footprint DIP16 (DIP; 16 Leads; Row Spacing 7.62 mm; Pitch 2.54 mm)
3D model DIP16 (DIP; 16 Leads; Row Spacing 7.62 mm; Pitch 2.54 mm)
signal-integrity model M54HC366F1R
pins: 1 ~{OE}1 (in), 2 A1 (in), 3 ~{Y}1 (hiz), 4 A2 (in), 5 ~{Y}2 (hiz), 6 A3 (in), 7 ~{Y}3 (hiz), 8 GND (power), 9 ~{Y}4 (hiz), 10 A4 (in), 11 ~{Y}5 (hiz), 12 A5 (in), 13 ~{Y}6 (hiz), 14 A6 (in), 15 ~{OE}2 (in), 16 VCC (power)

## M54HC367F1R
designator U?
Hex Bus Buffer (3-State Non Inv.); Published: 8-Jun-2000; LatestRevisionDate: 06-Jun-2005; LatestRevisionNote: Stylized 3D Model Added.; DatasheetVersion: Oct-1992; PackageVersion: Apr-1996; PackageReference: DIP16; Publisher: Altium Limited; PackageDescription: DIP; 16 Leads; Row Spacing 7.62 mm; Pitch 2.54 mm; ComponentLink1Description: Manufacturer Link; ComponentLink1URL: http://www.st.com/
footprint DIP16 (DIP; 16 Leads; Row Spacing 7.62 mm; Pitch 2.54 mm)
3D model DIP16 (DIP; 16 Leads; Row Spacing 7.62 mm; Pitch 2.54 mm)
signal-integrity model M54HC367F1R
pins on every part: 8 GND (power) hidden to GND, 16 VCC (power) hidden to VCC
part A pins: 1 ~{OE} (in), 2 A1 (in), 3 Y1 (hiz), 4 A2 (in), 5 Y2 (hiz), 6 A3 (in), 7 Y3 (hiz), 9 Y4 (hiz), 10 A4 (in)
part B pins: 11 Y1 (hiz), 12 A1 (in), 13 Y2 (hiz), 14 A2 (in), 15 ~{OE} (in)

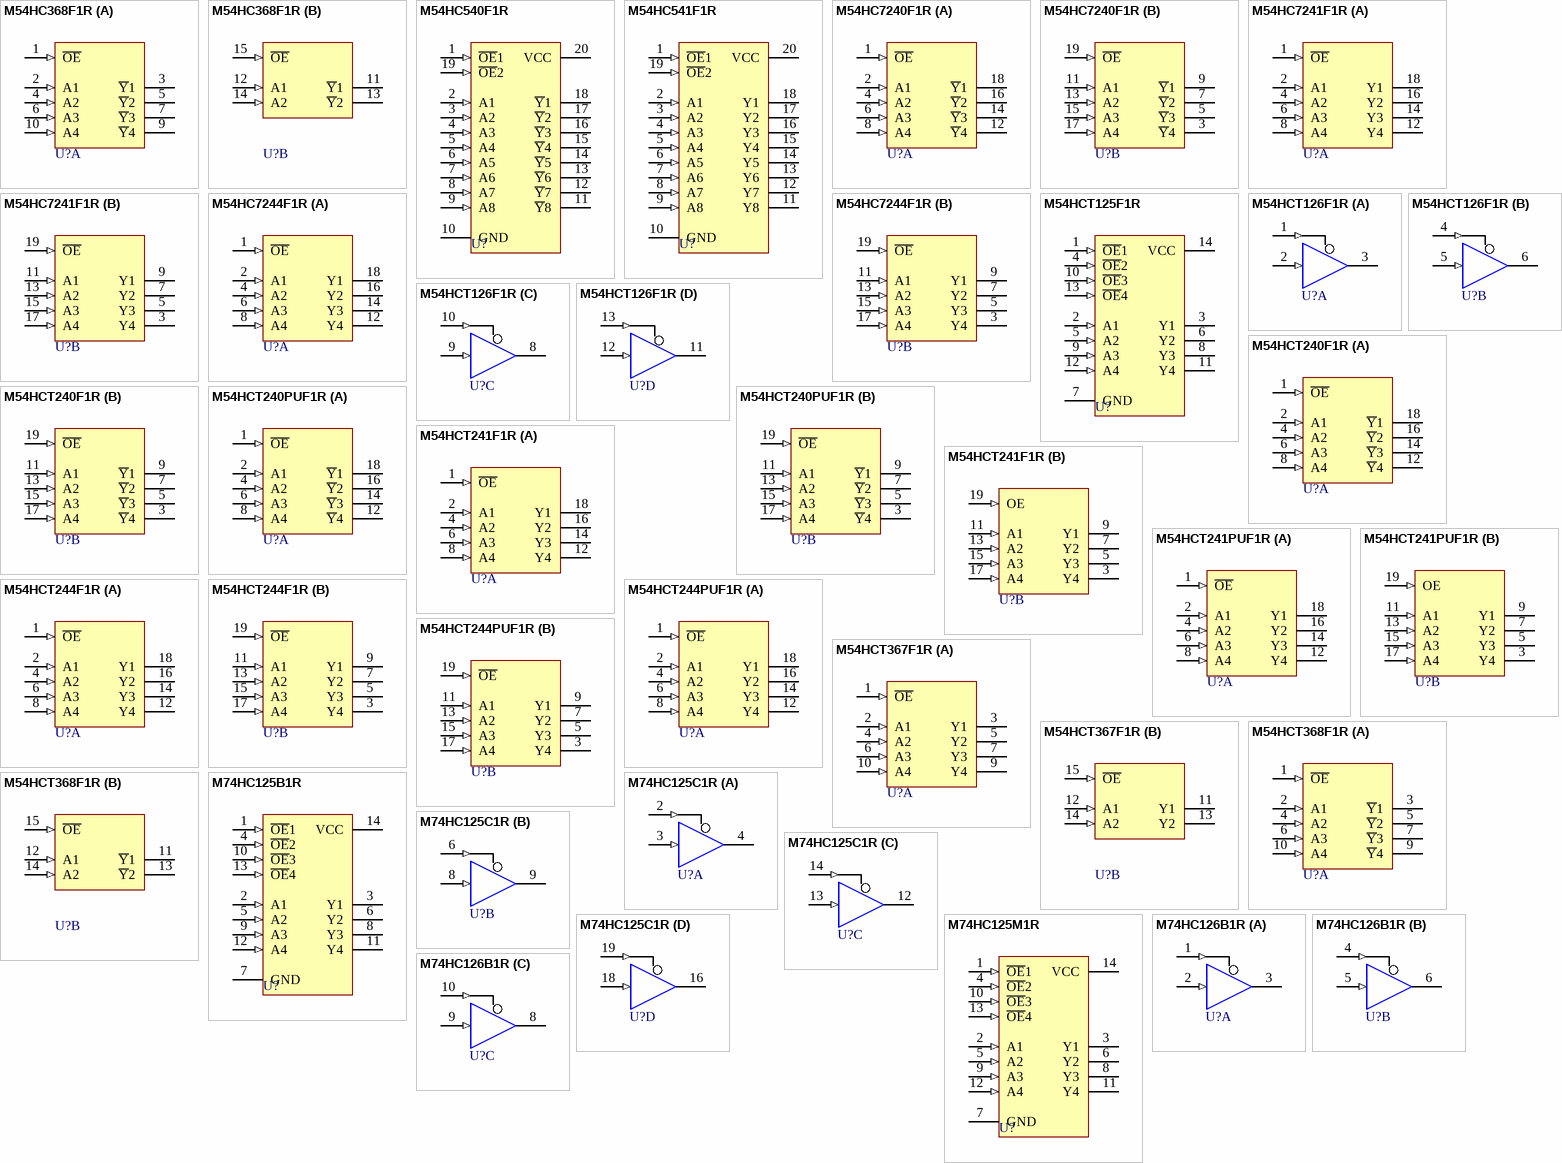
[diagram p1: symbols M54HC368F1R to M74HC126B1R]

## M54HC368F1R
designator U?
Hex Bus Buffer (3-State Inv.); Published: 8-Jun-2000; LatestRevisionDate: 06-Jun-2005; LatestRevisionNote: Stylized 3D Model Added.; DatasheetVersion: Oct-1992; PackageVersion: Apr-1996; PackageReference: DIP16; Publisher: Altium Limited; PackageDescription: DIP; 16 Leads; Row Spacing 7.62 mm; Pitch 2.54 mm; ComponentLink1Description: Manufacturer Link; ComponentLink1URL: http://www.st.com/
footprint DIP16 (DIP; 16 Leads; Row Spacing 7.62 mm; Pitch 2.54 mm)
3D model DIP16 (DIP; 16 Leads; Row Spacing 7.62 mm; Pitch 2.54 mm)
signal-integrity model M54HC368F1R
pins on every part: 8 GND (power) hidden to GND, 16 VCC (power) hidden to VCC
part A pins: 1 ~{OE} (in), 2 A1 (in), 3 ~{Y}1 (hiz), 4 A2 (in), 5 ~{Y}2 (hiz), 6 A3 (in), 7 ~{Y}3 (hiz), 9 ~{Y}4 (hiz), 10 A4 (in)
part B pins: 11 ~{Y}1 (hiz), 12 A1 (in), 13 ~{Y}2 (hiz), 14 A2 (in), 15 ~{OE} (in)

## M54HC540F1R
designator U?
Octal Bus Buffer with 3 State Outputs (Inverted); Published: 8-Jun-2000; LatestRevisionDate: 06-Jun-2005; LatestRevisionNote: Stylized 3D Model Added.; DatasheetVersion: Oct-1993; PackageVersion: Sep-1994; PackageReference: CDIP20; Publisher: Altium Limited; PackageDescription: DIP; 20 Leads; Row Spacing 7.62 mm; Pitch 2.54 mm; ComponentLink1Description: Manufacturer Link; ComponentLink1URL: http://www.st.com/
footprint CDIP20 (DIP; 20 Leads; Row Spacing 7.62 mm; Pitch 2.54 mm)
3D model CDIP20 (DIP; 20 Leads; Row Spacing 7.62 mm; Pitch 2.54 mm)
signal-integrity model M54HC540F1R
pins: 1 ~{OE}1 (in), 2 A1 (in), 3 A2 (in), 4 A3 (in), 5 A4 (in), 6 A5 (in), 7 A6 (in), 8 A7 (in), 9 A8 (in), 10 GND (power), 11 ~{Y}8 (hiz), 12 ~{Y}7 (hiz), 13 ~{Y}6 (hiz), 14 ~{Y}5 (hiz), 15 ~{Y}4 (hiz), 16 ~{Y}3 (hiz), 17 ~{Y}2 (hiz), 18 ~{Y}1 (hiz), 19 ~{OE}2 (in), 20 VCC (power)

## M54HC541F1R
designator U?
Octal Bus Buffer with 3 State Outputs (Non Inverted); Published: 8-Jun-2000; LatestRevisionDate: 06-Jun-2005; LatestRevisionNote: Stylized 3D Model Added.; DatasheetVersion: Oct-1993; PackageVersion: Sep-1994; PackageReference: CDIP20; Publisher: Altium Limited; PackageDescription: DIP; 20 Leads; Row Spacing 7.62 mm; Pitch 2.54 mm; ComponentLink1Description: Manufacturer Link; ComponentLink1URL: http://www.st.com/
footprint CDIP20 (DIP; 20 Leads; Row Spacing 7.62 mm; Pitch 2.54 mm)
3D model CDIP20 (DIP; 20 Leads; Row Spacing 7.62 mm; Pitch 2.54 mm)
signal-integrity model M54HC541F1R
pins: 1 ~{OE}1 (in), 2 A1 (in), 3 A2 (in), 4 A3 (in), 5 A4 (in), 6 A5 (in), 7 A6 (in), 8 A7 (in), 9 A8 (in), 10 GND (power), 11 Y8 (hiz), 12 Y7 (hiz), 13 Y6 (hiz), 14 Y5 (hiz), 15 Y4 (hiz), 16 Y3 (hiz), 17 Y2 (hiz), 18 Y1 (hiz), 19 ~{OE}2 (in), 20 VCC (power)

## M54HC7240F1R
designator U?
Octal Bus Buffer with 3 State Outputs (Inverted); Published: 8-Jun-2000; LatestRevisionDate: 06-Jun-2005; LatestRevisionNote: Stylized 3D Model Added.; DatasheetVersion: Oct-1993; PackageVersion: Sep-1994; PackageReference: CDIP20; Publisher: Altium Limited; PackageDescription: DIP; 20 Leads; Row Spacing 7.62 mm; Pitch 2.54 mm; ComponentLink1Description: Manufacturer Link; ComponentLink1URL: http://www.st.com/
footprint CDIP20 (DIP; 20 Leads; Row Spacing 7.62 mm; Pitch 2.54 mm)
3D model CDIP20 (DIP; 20 Leads; Row Spacing 7.62 mm; Pitch 2.54 mm)
signal-integrity model M54HC7240F1R
pins on every part: 10 GND (power) hidden to GND, 20 VCC (power) hidden to VCC
part A pins: 1 ~{OE} (in), 2 A1 (in), 4 A2 (in), 6 A3 (in), 8 A4 (in), 12 ~{Y}4 (hiz), 14 ~{Y}3 (hiz), 16 ~{Y}2 (hiz), 18 ~{Y}1 (hiz)
part B pins: 3 ~{Y}4 (hiz), 5 ~{Y}3 (hiz), 7 ~{Y}2 (hiz), 9 ~{Y}1 (hiz), 11 A1 (in), 13 A2 (in), 15 A3 (in), 17 A4 (in), 19 ~{OE} (in)

## M54HC7241F1R
designator U?
Octal Bus Buffer with 3 State Outputs (Non Inverted); Published: 8-Jun-2000; LatestRevisionDate: 06-Jun-2005; LatestRevisionNote: Stylized 3D Model Added.; DatasheetVersion: Oct-1993; PackageVersion: Sep-1994; PackageReference: CDIP20; Publisher: Altium Limited; PackageDescription: DIP; 20 Leads; Row Spacing 7.62 mm; Pitch 2.54 mm; ComponentLink1Description: Manufacturer Link; ComponentLink1URL: http://www.st.com/
footprint CDIP20 (DIP; 20 Leads; Row Spacing 7.62 mm; Pitch 2.54 mm)
3D model CDIP20 (DIP; 20 Leads; Row Spacing 7.62 mm; Pitch 2.54 mm)
signal-integrity model M54HC7241F1R
pins on every part: 10 GND (power) hidden to GND, 20 VCC (power) hidden to VCC
part A pins: 1 ~{OE} (in), 2 A1 (in), 4 A2 (in), 6 A3 (in), 8 A4 (in), 12 Y4 (hiz), 14 Y3 (hiz), 16 Y2 (hiz), 18 Y1 (hiz)
part B pins: 3 Y4 (hiz), 5 Y3 (hiz), 7 Y2 (hiz), 9 Y1 (hiz), 11 A1 (in), 13 A2 (in), 15 A3 (in), 17 A4 (in), 19 ~{OE} (in)

## M54HC7244F1R
designator U?
Octal Bus Buffer with 3 State Outputs (Non Inverted); Published: 8-Jun-2000; LatestRevisionDate: 06-Jun-2005; LatestRevisionNote: Stylized 3D Model Added.; DatasheetVersion: Oct-1993; PackageVersion: Sep-1994; PackageReference: CDIP20; Publisher: Altium Limited; PackageDescription: DIP; 20 Leads; Row Spacing 7.62 mm; Pitch 2.54 mm; ComponentLink1Description: Manufacturer Link; ComponentLink1URL: http://www.st.com/
footprint CDIP20 (DIP; 20 Leads; Row Spacing 7.62 mm; Pitch 2.54 mm)
3D model CDIP20 (DIP; 20 Leads; Row Spacing 7.62 mm; Pitch 2.54 mm)
signal-integrity model M54HC7244F1R
pins on every part: 10 GND (power) hidden to GND, 20 VCC (power) hidden to VCC
part A pins: 1 ~{OE} (in), 2 A1 (in), 4 A2 (in), 6 A3 (in), 8 A4 (in), 12 Y4 (hiz), 14 Y3 (hiz), 16 Y2 (hiz), 18 Y1 (hiz)
part B pins: 3 Y4 (hiz), 5 Y3 (hiz), 7 Y2 (hiz), 9 Y1 (hiz), 11 A1 (in), 13 A2 (in), 15 A3 (in), 17 A4 (in), 19 ~{OE} (in)

## M54HCT125F1R
designator U?
Quad Bus Buffer (3-State); Published: 8-Jun-2000; LatestRevisionDate: 06-Jun-2005; LatestRevisionNote: Stylized 3D Model Added.; DatasheetVersion: Oct-1993; PackageReference: CDIP14; Publisher: Altium Limited; PackageDescription: DIP; 14 Leads; Row Spacing 7.62 mm; Pitch 2.54 mm; ComponentLink1Description: Manufacturer Link; ComponentLink1URL: http://www.st.com/
footprint CDIP14 (DIP; 14 Leads; Row Spacing 7.62 mm; Pitch 2.54 mm)
3D model DIP14 (DIP; 14 Leads; Row Spacing 7.62 mm; Pitch 2.54 mm)
signal-integrity model M54HCT125F1R
pins: 1 ~{OE}1 (in), 2 A1 (in), 3 Y1 (hiz), 4 ~{OE}2 (in), 5 A2 (in), 6 Y2 (hiz), 7 GND (power), 8 Y3 (hiz), 9 A3 (in), 10 ~{OE}3 (in), 11 Y4 (hiz), 12 A4 (in), 13 ~{OE}4 (in), 14 VCC (power)

## M54HCT126F1R
designator U?
Quad Bus Buffer (3-State); Published: 8-Jun-2000; LatestRevisionDate: 06-Jun-2005; LatestRevisionNote: Stylized 3D Model Added.; DatasheetVersion: Oct-1993; PackageReference: CDIP14; Publisher: Altium Limited; PackageDescription: DIP; 14 Leads; Row Spacing 7.62 mm; Pitch 2.54 mm; ComponentLink1Description: Manufacturer Link; ComponentLink1URL: http://www.st.com/
footprint CDIP14 (DIP; 14 Leads; Row Spacing 7.62 mm; Pitch 2.54 mm)
3D model DIP14 (DIP; 14 Leads; Row Spacing 7.62 mm; Pitch 2.54 mm)
signal-integrity model M54HCT126F1R
pins on every part: 7 GND (power) hidden to GND, 14 VCC (power) hidden to VCC
part A pins: 1 OE (in), 2 A (in), 3 Y (hiz)
part B pins: 4 OE (in), 5 A (in), 6 Y (hiz)
part C pins: 8 Y (hiz), 9 A (in), 10 OE (in)
part D pins: 11 Y (hiz), 12 A (in), 13 OE (in)

## M54HCT240F1R
designator U?
Octal Bus Buffer with 3 State Outputs (Inverted); Published: 8-Jun-2000; LatestRevisionDate: 06-Jun-2005; LatestRevisionNote: Stylized 3D Model Added.; DatasheetVersion: Sep-1993; PackageVersion: Sep-1994; PackageReference: CDIP20; Publisher: Altium Limited; PackageDescription: DIP; 20 Leads; Row Spacing 7.62 mm; Pitch 2.54 mm; ComponentLink1Description: Manufacturer Link; ComponentLink1URL: http://www.st.com/
footprint CDIP20 (DIP; 20 Leads; Row Spacing 7.62 mm; Pitch 2.54 mm)
3D model CDIP20 (DIP; 20 Leads; Row Spacing 7.62 mm; Pitch 2.54 mm)
signal-integrity model M54HCT240F1R
pins on every part: 10 GND (power) hidden to GND, 20 VCC (power) hidden to VCC
part A pins: 1 ~{OE} (in), 2 A1 (in), 4 A2 (in), 6 A3 (in), 8 A4 (in), 12 ~{Y}4 (hiz), 14 ~{Y}3 (hiz), 16 ~{Y}2 (hiz), 18 ~{Y}1 (hiz)
part B pins: 3 ~{Y}4 (hiz), 5 ~{Y}3 (hiz), 7 ~{Y}2 (hiz), 9 ~{Y}1 (hiz), 11 A1 (in), 13 A2 (in), 15 A3 (in), 17 A4 (in), 19 ~{OE} (in)

## M54HCT240PUF1R
designator U?
Octal Bus Buffer with Pull-Up Input Network; Published: 8-Jun-2000; LatestRevisionDate: 06-Jun-2005; LatestRevisionNote: Stylized 3D Model Added.; DatasheetVersion: 1994; PackageVersion: Sep-1994; PackageReference: CDIP20; Publisher: Altium Limited; PackageDescription: DIP; 20 Leads; Row Spacing 7.62 mm; Pitch 2.54 mm; ComponentLink1Description: Manufacturer Link; ComponentLink1URL: http://www.st.com/
footprint CDIP20 (DIP; 20 Leads; Row Spacing 7.62 mm; Pitch 2.54 mm)
3D model CDIP20 (DIP; 20 Leads; Row Spacing 7.62 mm; Pitch 2.54 mm)
signal-integrity model M54HCT240PUF1R
pins on every part: 10 GND (power) hidden to GND, 20 VCC (power) hidden to VCC
part A pins: 1 ~{OE} (in), 2 A1 (in), 4 A2 (in), 6 A3 (in), 8 A4 (in), 12 ~{Y}4 (hiz), 14 ~{Y}3 (hiz), 16 ~{Y}2 (hiz), 18 ~{Y}1 (hiz)
part B pins: 3 ~{Y}4 (hiz), 5 ~{Y}3 (hiz), 7 ~{Y}2 (hiz), 9 ~{Y}1 (hiz), 11 A1 (in), 13 A2 (in), 15 A3 (in), 17 A4 (in), 19 ~{OE} (in)

## M54HCT241F1R
designator U?
Octal Bus Buffer with 3 State Outputs (Non Inverted); Published: 8-Jun-2000; LatestRevisionDate: 06-Jun-2005; LatestRevisionNote: Stylized 3D Model Added.; DatasheetVersion: Sep-1993; PackageVersion: Sep-1994; PackageReference: CDIP20; Publisher: Altium Limited; PackageDescription: DIP; 20 Leads; Row Spacing 7.62 mm; Pitch 2.54 mm; ComponentLink1Description: Manufacturer Link; ComponentLink1URL: http://www.st.com/
footprint CDIP20 (DIP; 20 Leads; Row Spacing 7.62 mm; Pitch 2.54 mm)
3D model CDIP20 (DIP; 20 Leads; Row Spacing 7.62 mm; Pitch 2.54 mm)
signal-integrity model M54HCT241F1R
pins on every part: 10 GND (power) hidden to GND, 20 VCC (power) hidden to VCC
part A pins: 1 ~{OE} (in), 2 A1 (in), 4 A2 (in), 6 A3 (in), 8 A4 (in), 12 Y4 (hiz), 14 Y3 (hiz), 16 Y2 (hiz), 18 Y1 (hiz)
part B pins: 3 Y4 (hiz), 5 Y3 (hiz), 7 Y2 (hiz), 9 Y1 (hiz), 11 A1 (in), 13 A2 (in), 15 A3 (in), 17 A4 (in), 19 OE (in)

## M54HCT241PUF1R
designator U?
Octal Bus Buffer with Pull-Up Input Network; Published: 8-Jun-2000; LatestRevisionDate: 06-Jun-2005; LatestRevisionNote: Stylized 3D Model Added.; DatasheetVersion: 1994; PackageVersion: Sep-1994; PackageReference: CDIP20; Publisher: Altium Limited; PackageDescription: DIP; 20 Leads; Row Spacing 7.62 mm; Pitch 2.54 mm; ComponentLink1Description: Manufacturer Link; ComponentLink1URL: http://www.st.com/
footprint CDIP20 (DIP; 20 Leads; Row Spacing 7.62 mm; Pitch 2.54 mm)
3D model CDIP20 (DIP; 20 Leads; Row Spacing 7.62 mm; Pitch 2.54 mm)
signal-integrity model M54HCT241PUF1R
pins on every part: 10 GND (power) hidden to GND, 20 VCC (power) hidden to VCC
part A pins: 1 ~{OE} (in), 2 A1 (in), 4 A2 (in), 6 A3 (in), 8 A4 (in), 12 Y4 (hiz), 14 Y3 (hiz), 16 Y2 (hiz), 18 Y1 (hiz)
part B pins: 3 Y4 (hiz), 5 Y3 (hiz), 7 Y2 (hiz), 9 Y1 (hiz), 11 A1 (in), 13 A2 (in), 15 A3 (in), 17 A4 (in), 19 OE (in)

## M54HCT244F1R
designator U?
Octal Bus Buffer with 3 State Outputs (Non Inverted); Published: 8-Jun-2000; LatestRevisionDate: 06-Jun-2005; LatestRevisionNote: Stylized 3D Model Added.; DatasheetVersion: Sep-1993; PackageVersion: Sep-1994; PackageReference: CDIP20; Publisher: Altium Limited; PackageDescription: DIP; 20 Leads; Row Spacing 7.62 mm; Pitch 2.54 mm; ComponentLink1Description: Manufacturer Link; ComponentLink1URL: http://www.st.com/
footprint CDIP20 (DIP; 20 Leads; Row Spacing 7.62 mm; Pitch 2.54 mm)
3D model CDIP20 (DIP; 20 Leads; Row Spacing 7.62 mm; Pitch 2.54 mm)
signal-integrity model M54HCT244F1R
pins on every part: 10 GND (power) hidden to GND, 20 VCC (power) hidden to VCC
part A pins: 1 ~{OE} (in), 2 A1 (in), 4 A2 (in), 6 A3 (in), 8 A4 (in), 12 Y4 (hiz), 14 Y3 (hiz), 16 Y2 (hiz), 18 Y1 (hiz)
part B pins: 3 Y4 (hiz), 5 Y3 (hiz), 7 Y2 (hiz), 9 Y1 (hiz), 11 A1 (in), 13 A2 (in), 15 A3 (in), 17 A4 (in), 19 ~{OE} (in)

## M54HCT244PUF1R
designator U?
Octal Bus Buffer with Pull-Up Input Network; Published: 8-Jun-2000; LatestRevisionDate: 06-Jun-2005; LatestRevisionNote: Stylized 3D Model Added.; DatasheetVersion: 1994; PackageVersion: Sep-1994; PackageReference: CDIP20; Publisher: Altium Limited; PackageDescription: DIP; 20 Leads; Row Spacing 7.62 mm; Pitch 2.54 mm; ComponentLink1Description: Manufacturer Link; ComponentLink1URL: http://www.st.com/
footprint CDIP20 (DIP; 20 Leads; Row Spacing 7.62 mm; Pitch 2.54 mm)
3D model CDIP20 (DIP; 20 Leads; Row Spacing 7.62 mm; Pitch 2.54 mm)
signal-integrity model M54HCT244PUF1R
pins on every part: 10 GND (power) hidden to GND, 20 VCC (power) hidden to VCC
part A pins: 1 ~{OE} (in), 2 A1 (in), 4 A2 (in), 6 A3 (in), 8 A4 (in), 12 Y4 (hiz), 14 Y3 (hiz), 16 Y2 (hiz), 18 Y1 (hiz)
part B pins: 3 Y4 (hiz), 5 Y3 (hiz), 7 Y2 (hiz), 9 Y1 (hiz), 11 A1 (in), 13 A2 (in), 15 A3 (in), 17 A4 (in), 19 ~{OE} (in)

## M54HCT367F1R
designator U?
Hex Bus Buffer (3-State Non Inv.); Published: 8-Jun-2000; LatestRevisionDate: 06-Jun-2005; LatestRevisionNote: Stylized 3D Model Added.; DatasheetVersion: Feb-1993; PackageVersion: Apr-1996; PackageReference: DIP16; Publisher: Altium Limited; PackageDescription: DIP; 16 Leads; Row Spacing 7.62 mm; Pitch 2.54 mm; ComponentLink1Description: Manufacturer Link; ComponentLink1URL: http://www.st.com/
footprint DIP16 (DIP; 16 Leads; Row Spacing 7.62 mm; Pitch 2.54 mm)
3D model DIP16 (DIP; 16 Leads; Row Spacing 7.62 mm; Pitch 2.54 mm)
signal-integrity model M54HCT367F1R
pins on every part: 8 GND (power) hidden to GND, 16 VCC (power) hidden to VCC
part A pins: 1 ~{OE} (in), 2 A1 (in), 3 Y1 (hiz), 4 A2 (in), 5 Y2 (hiz), 6 A3 (in), 7 Y3 (hiz), 9 Y4 (hiz), 10 A4 (in)
part B pins: 11 Y1 (hiz), 12 A1 (in), 13 Y2 (hiz), 14 A2 (in), 15 ~{OE} (in)

## M54HCT368F1R
designator U?
Hex Bus Buffer (3-State Inv.); Published: 8-Jun-2000; LatestRevisionDate: 06-Jun-2005; LatestRevisionNote: Stylized 3D Model Added.; DatasheetVersion: Feb-1993; PackageVersion: Apr-1996; PackageReference: DIP16; Publisher: Altium Limited; PackageDescription: DIP; 16 Leads; Row Spacing 7.62 mm; Pitch 2.54 mm; ComponentLink1Description: Manufacturer Link; ComponentLink1URL: http://www.st.com/
footprint DIP16 (DIP; 16 Leads; Row Spacing 7.62 mm; Pitch 2.54 mm)
3D model DIP16 (DIP; 16 Leads; Row Spacing 7.62 mm; Pitch 2.54 mm)
signal-integrity model M54HCT368F1R
pins on every part: 8 GND (power) hidden to GND, 16 VCC (power) hidden to VCC
part A pins: 1 ~{OE} (in), 2 A1 (in), 3 ~{Y}1 (hiz), 4 A2 (in), 5 ~{Y}2 (hiz), 6 A3 (in), 7 ~{Y}3 (hiz), 9 ~{Y}4 (hiz), 10 A4 (in)
part B pins: 11 ~{Y}1 (hiz), 12 A1 (in), 13 ~{Y}2 (hiz), 14 A2 (in), 15 ~{OE} (in)

## M74HC125B1R
designator U?
Quad Bus Buffer (3-State); Published: 8-Jun-2000; LatestRevisionDate: 06-Jun-2005; LatestRevisionNote: Stylized 3D Model Added.; DatasheetVersion: Sep-1993; PackageVersion: Jan-1997; PackageReference: DIP14; Publisher: Altium Limited; PackageDescription: DIP; 14 Leads; Row Spacing 7.62 mm; Pitch 2.54 mm; ComponentLink1Description: Manufacturer Link; ComponentLink1URL: http://www.st.com/; ComponentLink2Description: Datasheet; ComponentLink2URL: http://www.st.com/stonline/products/literature/ds/1894/m74hc125.pdf
footprint DIP14 (DIP; 14 Leads; Row Spacing 7.62 mm; Pitch 2.54 mm)
3D model DIP14 (DIP; 14 Leads; Row Spacing 7.62 mm; Pitch 2.54 mm)
signal-integrity model M74HC125B1R
pins: 1 ~{OE}1 (in), 2 A1 (in), 3 Y1 (hiz), 4 ~{OE}2 (in), 5 A2 (in), 6 Y2 (hiz), 7 GND (power), 8 Y3 (hiz), 9 A3 (in), 10 ~{OE}3 (in), 11 Y4 (hiz), 12 A4 (in), 13 ~{OE}4 (in), 14 VCC (power)